# Altium schematic symbol library IC_FOD817B.Schlib: 1 symbol
Pins are listed as number, name and electrical type; pins without a type are passive.

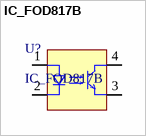
[diagram p0: symbol IC_FOD817B]

## IC_FOD817B
designator U?
Optocoupler single channel
pins: 1 A, 2 K, 3 E, 4 C